# EAGLE library part TPS61070_BOOST (library power)
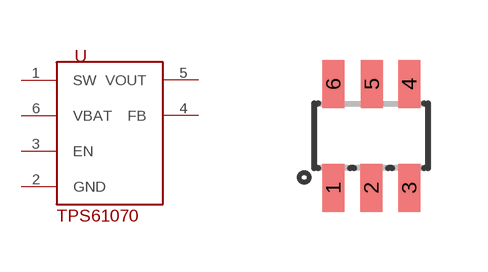
[diagram p0: symbol with the pads of SOT23-6; footprint SOT23-6]

Designator prefix -

## TPS61070_BOOST (PLACE_PART: YES)  [SOT23-6]
1  SW
2  GND
3  EN
4  FB
5  VOUT
6  VBAT

## Footprint SOT23-6 (pad centres in mm)
Small Outline Transistor
smd 0.55 x 1.2: 1 -0.95,-1.3; 2 0,-1.3; 3 0.95,-1.3; 4 0.95,1.3; 5 0.015,1.3; 6 -0.95,1.3